# Altium integrated library TerminalBlocksRisingCage_7.00mm.IntLib: 16 symbols
Pins are listed as number, name and electrical type; pins without a type are passive.

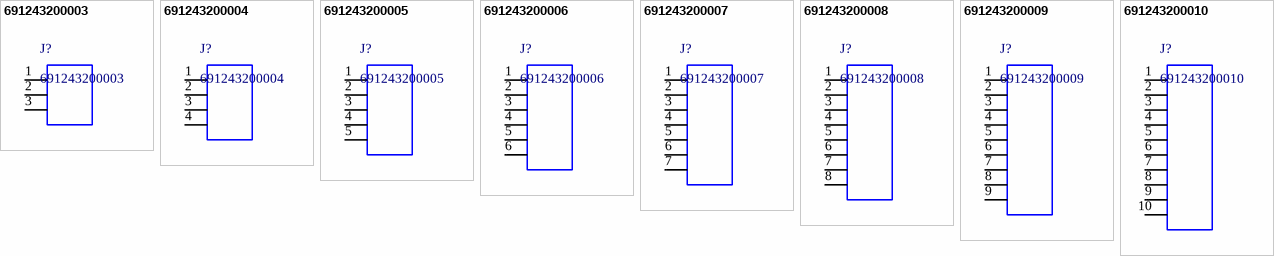
[diagram p0: symbols 691243200003 to 691243200010]

## 691243200003
designator J?
WR-TBL Vertical Cable Entry With Rising Cage Clamp,Serie 2432 - 7.00 mm; Manufacturer: Wurth Elektronik; ComponentLink1 Description: Manufacturer; ComponentLink2 Description: Datasheet; ComponentLink1URL: http://www.we-online.de; ComponentLink2URL: http://katalog.we-online.de/em/datasheet/6912432000xx.pdf; Created by: Baojun Chen; Created Date: 9.Sep.2015; partNo: 691243200003
footprint 691243200003 (Serie 2432 - 7.00 mm _ 3 pins)
pins: 1, 2, 3

## 691243200004
designator J?
WR-TBL Vertical Cable Entry With Rising Cage Clamp,Serie 2432 - 7.00 mm; Manufacturer: Wurth Elektronik; ComponentLink1 Description: Manufacturer; ComponentLink2 Description: Datasheet; ComponentLink1URL: http://www.we-online.de; ComponentLink2URL: http://katalog.we-online.de/em/datasheet/6912432000xx.pdf; Created by: Baojun Chen; Created Date: 9.Sep.2015; partNo: 691243200004
footprint 691243200004 (Serie 2432 - 7.00 mm _ 4 pins)
pins: 1, 2, 3, 4

## 691243200005
designator J?
WR-TBL Vertical Cable Entry With Rising Cage Clamp,Serie 2432 - 7.00 mm; Manufacturer: Wurth Elektronik; ComponentLink1 Description: Manufacturer; ComponentLink2 Description: Datasheet; ComponentLink1URL: http://www.we-online.de; ComponentLink2URL: http://katalog.we-online.de/em/datasheet/6912432000xx.pdf; Created by: Baojun Chen; Created Date: 9.Sep.2015; partNo: 691243200005
footprint 691243200005 (Serie 2432 - 7.00 mm _ 5 pins)
pins: 1, 2, 3, 4, 5

## 691243200006
designator J?
WR-TBL Vertical Cable Entry With Rising Cage Clamp,Serie 2432 - 7.00 mm; Manufacturer: Wurth Elektronik; ComponentLink1 Description: Manufacturer; ComponentLink2 Description: Datasheet; ComponentLink1URL: http://www.we-online.de; ComponentLink2URL: http://katalog.we-online.de/em/datasheet/6912432000xx.pdf; Created by: Baojun Chen; Created Date: 9.Sep.2015; partNo: 691243200006
footprint 691243200006 (Serie 2432 - 7.00 mm _ 6 pins)
pins: 1, 2, 3, 4, 5, 6

## 691243200007
designator J?
WR-TBL Vertical Cable Entry With Rising Cage Clamp,Serie 2432 - 7.00 mm; Manufacturer: Wurth Elektronik; ComponentLink1 Description: Manufacturer; ComponentLink2 Description: Datasheet; ComponentLink1URL: http://www.we-online.de; ComponentLink2URL: http://katalog.we-online.de/em/datasheet/6912432000xx.pdf; Created by: Baojun Chen; Created Date: 9.Sep.2015; partNo: 691243200007
footprint 691243200007 (Serie 2432 - 7.00 mm _ 7 pins)
pins: 1, 2, 3, 4, 5, 6, 7

## 691243200008
designator J?
WR-TBL Vertical Cable Entry With Rising Cage Clamp,Serie 2432 - 7.00 mm; Manufacturer: Wurth Elektronik; ComponentLink1 Description: Manufacturer; ComponentLink2 Description: Datasheet; ComponentLink1URL: http://www.we-online.de; ComponentLink2URL: http://katalog.we-online.de/em/datasheet/6912432000xx.pdf; Created by: Baojun Chen; Created Date: 9.Sep.2015; partNo: 691243200008
footprint 691243200008 (Serie 2432 - 7.00 mm _ 8 pins)
pins: 1, 2, 3, 4, 5, 6, 7, 8

## 691243200009
designator J?
WR-TBL Vertical Cable Entry With Rising Cage Clamp,Serie 2432 - 7.00 mm; Manufacturer: Wurth Elektronik; ComponentLink1 Description: Manufacturer; ComponentLink2 Description: Datasheet; ComponentLink1URL: http://www.we-online.de; ComponentLink2URL: http://katalog.we-online.de/em/datasheet/6912432000xx.pdf; Created by: Baojun Chen; Created Date: 9.Sep.2015; partNo: 691243200009
footprint 691243200009 (Serie 2432 - 7.00 mm _ 9 pins)
pins: 1, 2, 3, 4, 5, 6, 7, 8, 9

## 691243200010
designator J?
WR-TBL Vertical Cable Entry With Rising Cage Clamp,Serie 2432 - 7.00 mm; Manufacturer: Wurth Elektronik; ComponentLink1 Description: Manufacturer; ComponentLink2 Description: Datasheet; ComponentLink1URL: http://www.we-online.de; ComponentLink2URL: http://katalog.we-online.de/em/datasheet/6912432000xx.pdf; Created by: Baojun Chen; Created Date: 9.Sep.2015; partNo: 691243200010
footprint 691243200010 (Serie 2432 - 7.00 mm _ 10 pins)
pins: 1, 2, 3, 4, 5, 6, 7, 8, 9, 10


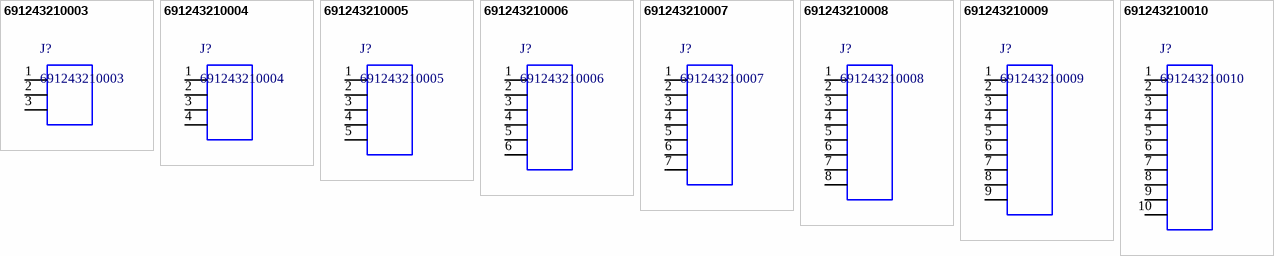
[diagram p1: symbols 691243210003 to 691243210010]

## 691243210003
designator J?
WR-TBL Horizontal Cable Entry With Rising Cage Clamp,Serie 2432 - 7.00 mm; Manufacturer: Wurth Elektronik; ComponentLink1 Description: Manufacturer; ComponentLink2 Description: Datasheet; ComponentLink1URL: http://www.we-online.de; ComponentLink2URL: http://katalog.we-online.de/em/datasheet/6912432100xx.pdf; Created by: Baojun Chen; Created Date: 9.Sep.2015; partNo: 691243210003
footprint 691243210003 (Serie 2432 - 7.00 mm _ 3 pins)
pins: 1, 2, 3

## 691243210004
designator J?
WR-TBL Horizontal Cable Entry With Rising Cage Clamp,Serie 2432 - 7.00 mm; Manufacturer: Wurth Elektronik; ComponentLink1 Description: Manufacturer; ComponentLink2 Description: Datasheet; ComponentLink1URL: http://www.we-online.de; ComponentLink2URL: http://katalog.we-online.de/em/datasheet/6912432100xx.pdf; Created by: Baojun Chen; Created Date: 9.Sep.2015; partNo: 691243210004
footprint 691243210004 (Serie 2432 - 7.00 mm _ 4 pins)
pins: 1, 2, 3, 4

## 691243210005
designator J?
WR-TBL Horizontal Cable Entry With Rising Cage Clamp,Serie 2432 - 7.00 mm; Manufacturer: Wurth Elektronik; ComponentLink1 Description: Manufacturer; ComponentLink2 Description: Datasheet; ComponentLink1URL: http://www.we-online.de; ComponentLink2URL: http://katalog.we-online.de/em/datasheet/6912432100xx.pdf; Created by: Baojun Chen; Created Date: 9.Sep.2015; partNo: 691243210005
footprint 691243210005 (Serie 2432 - 7.00 mm _ 5 pins)
pins: 1, 2, 3, 4, 5

## 691243210006
designator J?
WR-TBL Horizontal Cable Entry With Rising Cage Clamp,Serie 2432 - 7.00 mm; Manufacturer: Wurth Elektronik; ComponentLink1 Description: Manufacturer; ComponentLink2 Description: Datasheet; ComponentLink1URL: http://www.we-online.de; ComponentLink2URL: http://katalog.we-online.de/em/datasheet/6912432100xx.pdf; Created by: Baojun Chen; Created Date: 9.Sep.2015; partNo: 691243210006
footprint 691243210006 (Serie 2432 - 7.00 mm _ 6 pins)
pins: 1, 2, 3, 4, 5, 6

## 691243210007
designator J?
WR-TBL Horizontal Cable Entry With Rising Cage Clamp,Serie 2432 - 7.00 mm; Manufacturer: Wurth Elektronik; ComponentLink1 Description: Manufacturer; ComponentLink2 Description: Datasheet; ComponentLink1URL: http://www.we-online.de; ComponentLink2URL: http://katalog.we-online.de/em/datasheet/6912432100xx.pdf; Created by: Baojun Chen; Created Date: 9.Sep.2015; partNo: 691243210007
footprint 691243210007 (Serie 2432 - 7.00 mm _ 7 pins)
pins: 1, 2, 3, 4, 5, 6, 7

## 691243210008
designator J?
WR-TBL Horizontal Cable Entry With Rising Cage Clamp,Serie 2432 - 7.00 mm; Manufacturer: Wurth Elektronik; ComponentLink1 Description: Manufacturer; ComponentLink2 Description: Datasheet; ComponentLink1URL: http://www.we-online.de; ComponentLink2URL: http://katalog.we-online.de/em/datasheet/6912432100xx.pdf; Created by: Baojun Chen; Created Date: 9.Sep.2015; partNo: 691243210008
footprint 691243210008 (Serie 2432 - 7.00 mm _ 8 pins)
pins: 1, 2, 3, 4, 5, 6, 7, 8

## 691243210009
designator J?
WR-TBL Horizontal Cable Entry With Rising Cage Clamp,Serie 2432 - 7.00 mm; Manufacturer: Wurth Elektronik; ComponentLink1 Description: Manufacturer; ComponentLink2 Description: Datasheet; ComponentLink1URL: http://www.we-online.de; ComponentLink2URL: http://katalog.we-online.de/em/datasheet/6912432100xx.pdf; Created by: Baojun Chen; Created Date: 9.Sep.2015; partNo: 691243210009
footprint 691243210009 (Serie 2432 - 7.00 mm _ 9 pins)
pins: 1, 2, 3, 4, 5, 6, 7, 8, 9

## 691243210010
designator J?
WR-TBL Horizontal Cable Entry With Rising Cage Clamp,Serie 2432 - 7.00 mm; Manufacturer: Wurth Elektronik; ComponentLink1 Description: Manufacturer; ComponentLink2 Description: Datasheet; ComponentLink1URL: http://www.we-online.de; ComponentLink2URL: http://katalog.we-online.de/em/datasheet/6912432100xx.pdf; Created by: Baojun Chen; Created Date: 9.Sep.2015; partNo: 691243210010
footprint 691243210010 (Serie 2432 - 7.00 mm _ 10 pins)
pins: 1, 2, 3, 4, 5, 6, 7, 8, 9, 10